# Altium schematic symbol library btn_single_motor.SCHLIB: 8 symbols
Pins are listed as number, name and electrical type; pins without a type are passive.

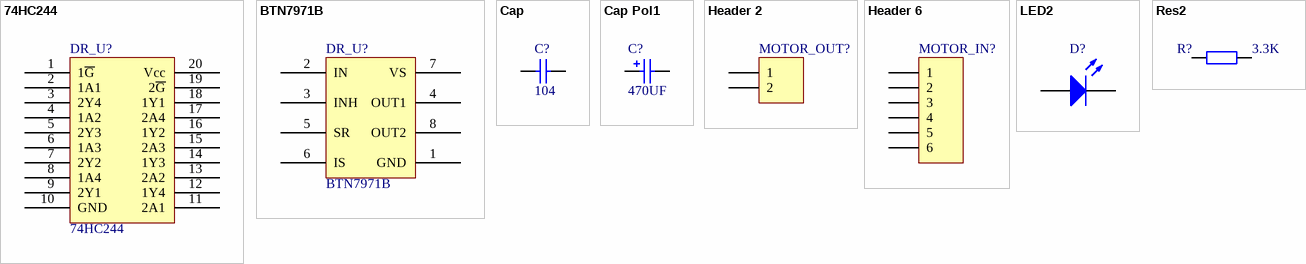
[diagram p0: symbols 74HC244 to Res2]

## 74HC244
designator DR_U?
footprint SOP20 (Small Outline; 20 Leads; Body Width 5.6 mm; Pitch 1.27 mm)
footprint SOP_20 (Small Outline; 20 Leads; Body Width 5.6 mm; Pitch 1.27 mm)
footprint SOP20 (Small Outline; 20 Leads; Body Width 5.6 mm; Pitch 1.27 mm)
footprint SOP_20 (Small Outline; 20 Leads; Body Width 5.6 mm; Pitch 1.27 mm)
footprint 74244 (Small Outline; 20 Leads; Body Width 5.6 mm; Pitch 1.27 mm)
pins: 1 1~{G}, 2 1A1, 3 2Y4, 4 1A2, 5 2Y3, 6 1A3, 7 2Y2, 8 1A4, 9 2Y1, 10 GND, 11 2A1, 12 1Y4, 13 2A2, 14 1Y3, 15 2A3, 16 1Y2, 17 2A4, 18 1Y1, 19 2~{G}, 20 Vcc

## BTN7971B
designator DR_U?
footprint BTN
footprint BTN
pins: 1 GND, 2 IN, 3 INH, 4 OUT1, 5 SR, 6 IS, 7 VS, 8 OUT2

## Cap
designator C?  value 104  (hidden comment: Cap)
Capacitor; Published: 8-Jun-2000; LatestRevisionDate: 17-Jul-2002; LatestRevisionNote: Re-released for DXP Platform.; PackageReference: RAD-0.3; Publisher: Altium Limited
simulation model CAP (Capacitor)
signal-integrity model Cap
footprint C 0603_L (无极性贴片电容)
pins: 1, 2

## Cap Pol1
designator C?  value 470UF  (hidden comment: Cap Pol1)
Polarized Capacitor (Radial); Published: 8-Jun-2000; LatestRevisionDate: 17-Jul-2002; LatestRevisionNote: Re-released for DXP Platform.; PackageReference: RB7.6-15; Publisher: Altium Limited; PackageDescription: Polarized Capacitor (Radial); 2 Leads
simulation model CAP (Capacitor)
signal-integrity model Cap Pol
footprint CAP 5.0*10*12.5 (脚距5mm直径10mm高度12.5mm)
pins: 1, 2
1 alternate drawing of the same symbol

## Header 2
designator MOTOR_OUT?  (value not drawn)
Header, 2-Pin; LatestRevisionDate: 17-Jul-2002; LatestRevisionNote: Re-released for DXP Platform.; Publisher: Altium Limited
signal-integrity model Connector
footprint 2PIN-5.08B (3A)
pins: 1, 2

## Header 6
designator MOTOR_IN?  (value not drawn)
Header, 6-Pin; LatestRevisionDate: 17-Jul-2002; LatestRevisionNote: Re-released for DXP Platform.; Publisher: Altium Limited
signal-integrity model Connector
footprint MX 1.25-WI-6P (长：9.25mm，宽：1.8mm，高：3.3mm)
pins: 1, 2, 3, 4, 5, 6

## LED2
designator D?  (value not drawn)
Typical RED, GREEN, YELLOW, AMBER GaAs LED; Published: 8-Jun-2000; LatestRevisionDate: 17-Jul-2002; LatestRevisionNote: Re-released for DXP Platform.; PackageDocument: Feb-2002; PackageReference: 3.2X1.6X1.1; Publisher: Altium Limited
simulation model LED2 (Diode)
footprint 0603LED B
pins: 1 A, 2 K

## Res2
designator R?  value 3.3K  (hidden comment: Res2)
Resistor; Published: 8-Jun-2000; LatestRevisionDate: 17-Jul-2002; LatestRevisionNote: Re-released for DXP Platform.; PackageReference: AXIAL-0.4; Publisher: Altium Limited
simulation model RESISTOR (Resistor)
signal-integrity model Res
footprint R 0603_L (1/10W贴片电阻)
pins: 1, 2